# Altium schematic symbol library AMIS30624_SO-20.SchLib: 1 symbol
Pins are listed as number, name and electrical type; pins without a type are passive.

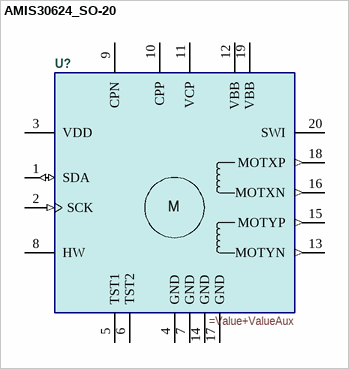
[diagram p0: symbol AMIS30624_SO-20]

## AMIS30624_SO-20
designator U?
=Description
pins: 1 SDA (io), 2 SCK (in), 3 VDD (power), 4 GND (power), 5 TST1, 6 TST2, 7 GND (power), 8 HW (power), 9 CPN, 10 CPP, 11 VCP (power), 12 VBB (power), 13 MOTYN (out), 14 GND (power), 15 MOTYP (out), 16 MOTXN (out), 17 GND (power), 18 MOTXP (out), 19 VBB (power), 20 SWI (power)
text: M